# EAGLE library part HEADER_11P (library Bauteile)
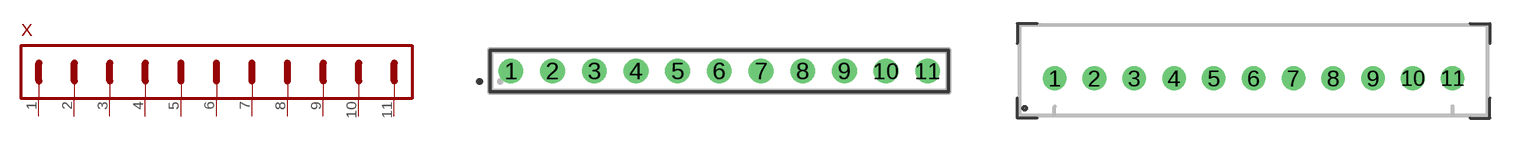
[diagram p77: symbol with the pads of HEADER_11P_1ROW_RM2.54MM_THT; footprints HEADER_11P_1ROW_RM2.54MM_THT, JST-XH_11]

Designator prefix X

## HEADER_11P(RM2.54MM_1ROW_THT)  [HEADER_11P_1ROW_RM2.54MM_THT]
1  PIN1
2  PIN2
3  PIN3
4  PIN4
5  PIN5
6  PIN6
7  PIN7
8  PIN8
9  PIN9
10  PIN10
11  PIN11

## HEADER_11P(JST-XH)  [JST-XH_11]
Pads as for HEADER_11P_1ROW_RM2.54MM_THT

## Footprint HEADER_11P_1ROW_RM2.54MM_THT (pad centres in mm)
drill 1: 1 -12.7,0; 2 -10.16,0; 3 -7.62,0; 4 -5.08,0; 5 -2.54,0; 6 0,0; 7 2.54,0; 8 5.08,0; 9 7.62,0; 10 10.16,0; 11 12.7,0

## Footprint JST-XH_11 (pad centres in mm)
drill 1: 1 -12.7,0; 2 -10.16,0; 3 -7.62,0; 4 -5.08,0; 5 -2.54,0; 6 0,0; 7 2.54,0; 8 5.08,0; 9 7.62,0; 10 10.16,0; 11 12.7,0